# Altium integrated library СТАБИЛИЗАТ-MM.IntLib: 24 symbols
Pins are listed as number, name and electrical type; pins without a type are passive.

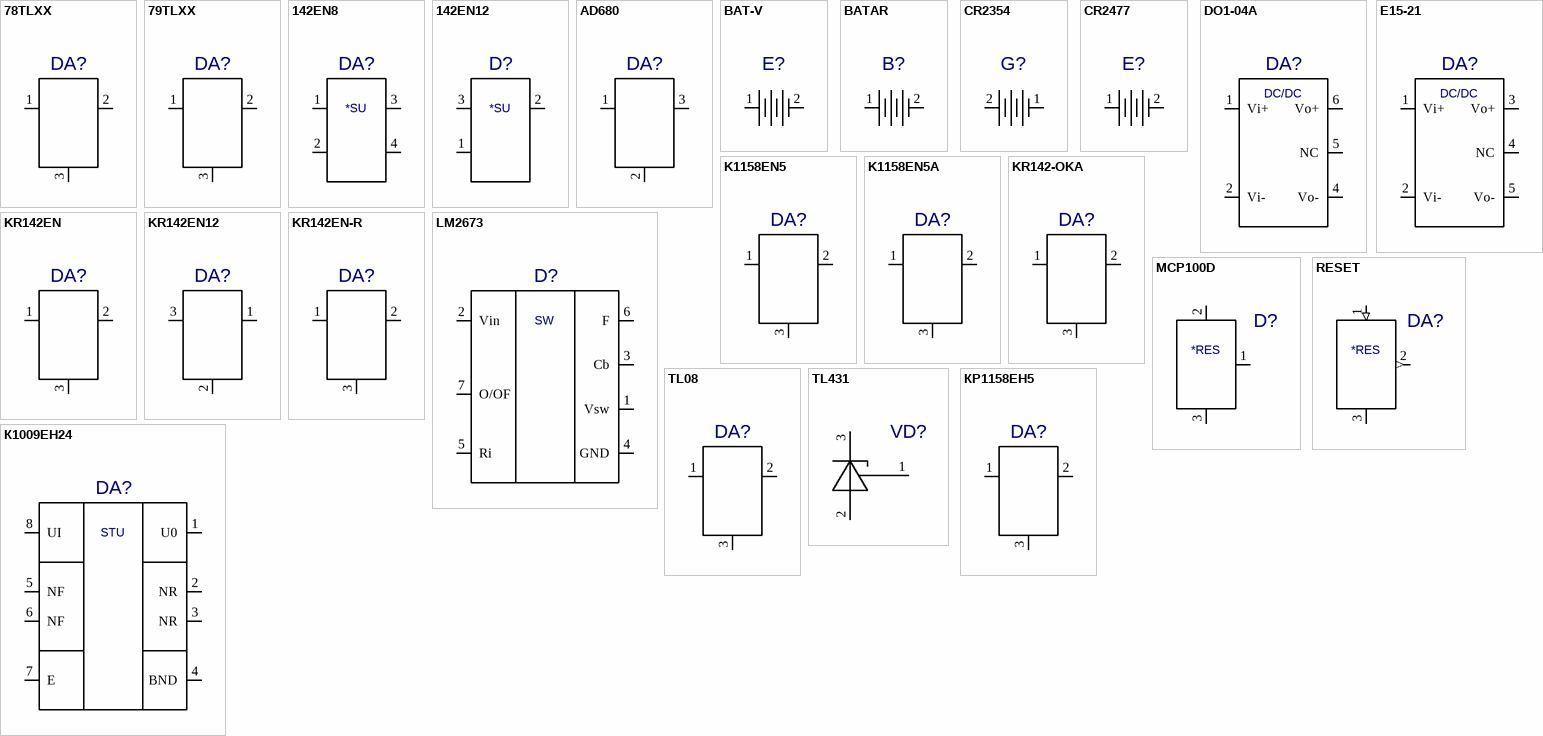
[diagram p0: symbols 78TLХХ to КР1158ЕН5]

## 78TLХХ
designator DA?  (value not drawn)
Value: *
footprint KT26-2
pins: 1 IN0, 2 GND0, 3 OUT0

## 79TLХХ
designator DA?  (value not drawn)
Value: *
footprint 79TLXX
pins: 1 IN0, 2 GND0, 3 OUT0

## 142EN8
designator DA?  (value not drawn)
Value: *
footprint 142ЕН8
pins: 1 IN0, 2 GND0, 3 OUT0, 4 GND1, 5 hidden, 6 hidden
text: *SU

## 142EN12
designator D?  (value not drawn)
Value: *
footprint KR142EN
pins: 1 Upr, 2 OUT0, 3 IN0
text: *SU

## AD680
designator DA?  (value not drawn)
Value: *
footprint KT26-3
pins: 1 IN, 2 OUT, 3 GND

## BAT-V
designator E?  (value not drawn)
Value: *
footprint EV
pins: 1 PLUS, 2 MINUS

## BATAR
designator B?  (value not drawn)
Value: *
footprint BATAR
pins: 1 PLUS, 2 MINUS

## CR2354
designator G?  (value not drawn)
Value: *
footprint CR2354
pins: 1 PLUS, 2 MINUS, 3 PLUS hidden

## CR2477
designator E?  (value not drawn)
Value: *
footprint CR2477
pins: 1 PLUS, 2 MINUS, 3 hidden, 4 hidden, 5 hidden

## DO1-04A
designator DA?  (value not drawn)
Value: *
footprint DC-DC1
pins: 1 Vi+, 2 Vi-, 4 Vo-, 5 NC, 6 Vo+
text: DC/DC

## E15-21
designator DA?  (value not drawn)
Value: *
footprint E15-21
pins: 1 Vi+, 2 Vi-, 3 Vo+, 4 NC, 5 Vo-
text: DC/DC

## K1158EN5
designator DA?  (value not drawn)
Value: *
footprint KR142EN
pins: 1 IN0, 2 GND0, 3 OUT0

## K1158EN5A
designator DA?  (value not drawn)
Value: *
footprint KR142ENA
pins: 1 IN0, 2 GND0, 3 OUT0

## KR142-OKA
designator DA?  (value not drawn)
Value: *
footprint KR142EN-R OKA
pins: 1 IN, 2 GND, 3 OUT

## KR142EN
designator DA?  (value not drawn)
Value: *
footprint KR142EN
pins: 1 IN0, 2 GND0, 3 OUT0

## KR142EN12
designator DA?  (value not drawn)
Value: *
footprint KR142EN
pins: 1 GND0, 2 OUT0, 3 IN0

## KR142EN-R
designator DA?  (value not drawn)
Value: *
footprint KR142EN-R
pins: 1 IN0, 2 GND0, 3 OUT0, 4 hidden

## LM2673
designator D?  (value not drawn)
Value: *
footprint LM2673
pins: 1 Vsw, 2 Vin, 3 Cb, 4 GND (power), 5 Ri, 6 F, 7 O/OF, 8 GND (power) hidden
text: SW

## MCP100D
designator D?  (value not drawn)
Value: *
footprint KT26-3
pins: 1 OUT0, 2 IN0, 3 GND0
text: *RES

## RESET
designator DA?  (value not drawn)
Value: *
footprint SOT223
pins: 1 IN (in), 2 OUT (out), 3 GND, 4 GND hidden
text: *RES

## TL08
designator DA?  (value not drawn)
Value: *
footprint KT26-2
pins: 1 IN0, 2 GND0, 3 OUT0

## TL431
designator VD?  (value not drawn)
Value: *
footprint KT26-3
pins: 1 R, 2 A, 3 C

## К1009ЕН24
designator DA?  (value not drawn)
Value: *
footprint 302-8-2
pins: 1 U0, 2 NR, 3 NR, 4 BND, 5 NF, 6 NF, 7 E, 8 UI
text: STU

## КР1158ЕН5
designator DA?  (value not drawn)
Value: *
footprint KT26-3
pins: 1 IN0, 2 GND0, 3 OUT0